# Altium schematic symbol library 2019-09-07_18-38-47.SchLib: 2 symbols
Pins are listed as number, name and electrical type; pins without a type are passive.

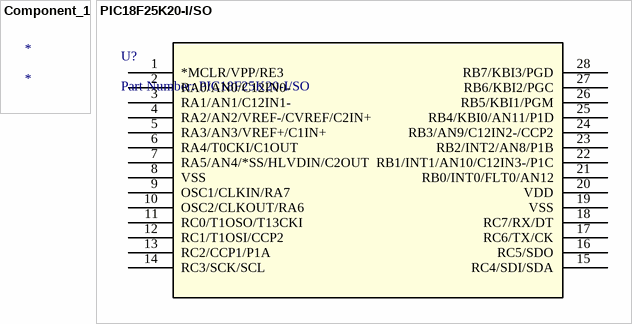
[diagram p0: symbols Component_1 to PIC18F25K20-I/SO]

## Component_1
designator *

## PIC18F25K20-I/SO
designator U?, comment Part Number: PIC18F25K20-I/SO
No Description Available; Vendor: Microchip; Built_By: EMA_UL_Team; Manufacturer_Part_Number: PIC18F25K20-I/SO; Copyright: Copyright (C) 2018 Accelerated Designs. All rights reserved; RefDes: RefDes; Type: DEV; Value: Value
footprint SOIC28-W_MC
pins: 1 *MCLR/VPP/RE3, 2 RA0/AN0/C12IN0-, 3 RA1/AN1/C12IN1-, 4 RA2/AN2/VREF-/CVREF/C2IN+, 5 RA3/AN3/VREF+/C1IN+, 6 RA4/T0CKI/C1OUT, 7 RA5/AN4/*SS/HLVDIN/C2OUT, 8 VSS, 9 OSC1/CLKIN/RA7, 10 OSC2/CLKOUT/RA6, 11 RC0/T1OSO/T13CKI, 12 RC1/T1OSI/CCP2, 13 RC2/CCP1/P1A, 14 RC3/SCK/SCL, 15 RC4/SDI/SDA, 16 RC5/SDO, 17 RC6/TX/CK, 18 RC7/RX/DT, 19 VSS, 20 VDD, 21 RB0/INT0/FLT0/AN12, 22 RB1/INT1/AN10/C12IN3-/P1C, 23 RB2/INT2/AN8/P1B, 24 RB3/AN9/C12IN2-/CCP2, 25 RB4/KBI0/AN11/P1D, 26 RB5/KBI1/PGM, 27 RB6/KBI2/PGC, 28 RB7/KBI3/PGD